# Altium footprint library INDPM7973X540N.PcbLib: 1 footprints
Each footprint in its own frame and in the unit in brackets; x right, y up, seen from the top. Pads: shape width x height; smd on the part's side, far side on the other; paste and mask are expansions set on the pad; w line width, h text height; cw(c..) or ccw(c..) is an arc to the next point about the centre after c.
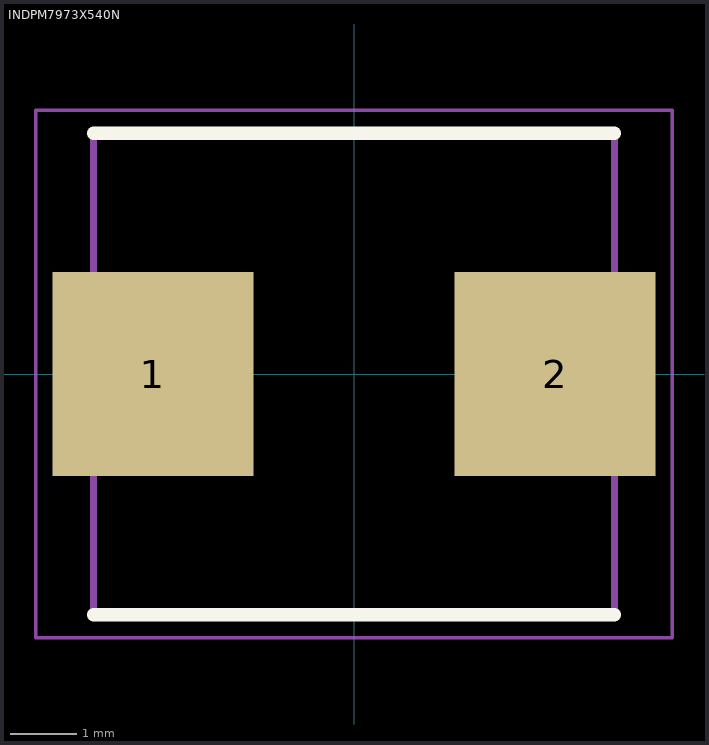
[diagram p0: the footprint, top view; thin cyan lines are the x and y axes]

## INDPM7973X540N [mm]
pads (2):
  rect 3.05x3.1 smd: 1(-3.05,0) 2(3.05,0)
Top Overlay:
  lines w0.2: -3.95,-3.65 3.95,-3.65 ; -3.95,3.65 3.95,3.65
Mechanical 15:
  lines w0.1: -3.95,-3.65 3.95,-3.65 3.95,3.65 -3.95,3.65 -3.95,-3.65
Mechanical 20:
  lines w0.05: -4.825,-4 4.825,-4 4.825,4 -4.825,4 -4.825,-4